# EAGLE library part MSP430G2X53_28PIN (library PP_DigitalIC)
Manufacturer Part #: MSP430G2553IPW28 Manufacturer: Texas Instruments Description: 16-bit Microcontrollers - MCU Mixed Signal MCU
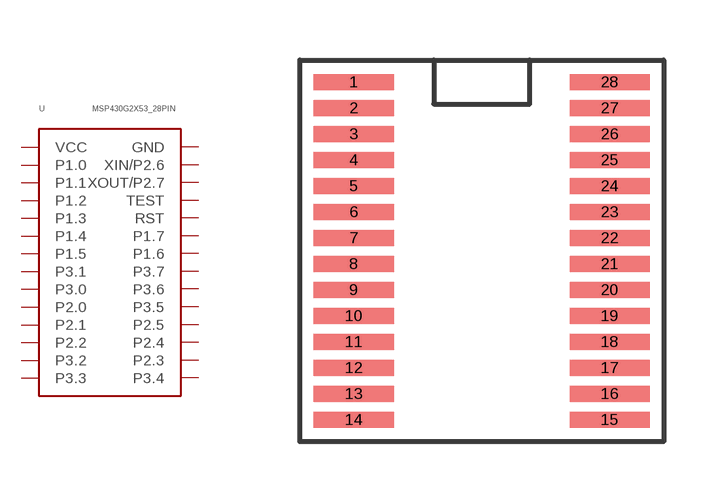
[diagram p1: symbol with the pads of TTSOP-28; footprint TTSOP-28]

Designator prefix U

## MSP430G2X53_28PINTTSOP-28  [TTSOP-28]
1  VCC
2  P1.0
3  P1.1
4  P1.2
5  P1.3
6  P1.4
7  P1.5
8  P3.1
9  P3.0
10  P2.0
11  P2.1
12  P2.2
13  P3.2
14  P3.3
15  P3.4
16  P2.3
17  P2.4
18  P2.5
19  P3.5
20  P3.6
21  P3.7
22  P1.6
23  P1.7
24  RST
25  TEST
26  XOUT/P2.7
27  XIN/P2.6
28  GND

## Footprint TTSOP-28 (pad centres in mm)
smd 2 x 0.4: 1 -3.2,3.18; 2 -3.2,2.53; 3 -3.2,1.88; 4 -3.2,1.23; 5 -3.2,0.58; 6 -3.2,-0.07; 7 -3.2,-0.72; 8 -3.2,-1.37; 9 -3.2,-2.02; 10 -3.2,-2.67; 11 -3.2,-3.32; 12 -3.2,-3.97; 13 -3.2,-4.62; 14 -3.2,-5.27; 15 3.2,-5.27; 16 3.2,-4.62; 17 3.2,-3.97; 18 3.2,-3.32; 19 3.2,-2.67; 20 3.2,-2.02; 21 3.2,-1.37; 22 3.2,-0.72; 23 3.2,-0.07; 24 3.2,0.58; 25 3.2,1.23; 26 3.2,1.88; 27 3.2,2.53; 28 3.2,3.18